# Altium footprint library 二极管.PcbLib: 7 footprints
Each footprint in its own frame and in the unit in brackets; x right, y up, seen from the top. Pads: shape width x height; smd on the part's side, far side on the other; paste and mask are expansions set on the pad; w line width, h text height; cw(c..) or ccw(c..) is an arc to the next point about the centre after c.
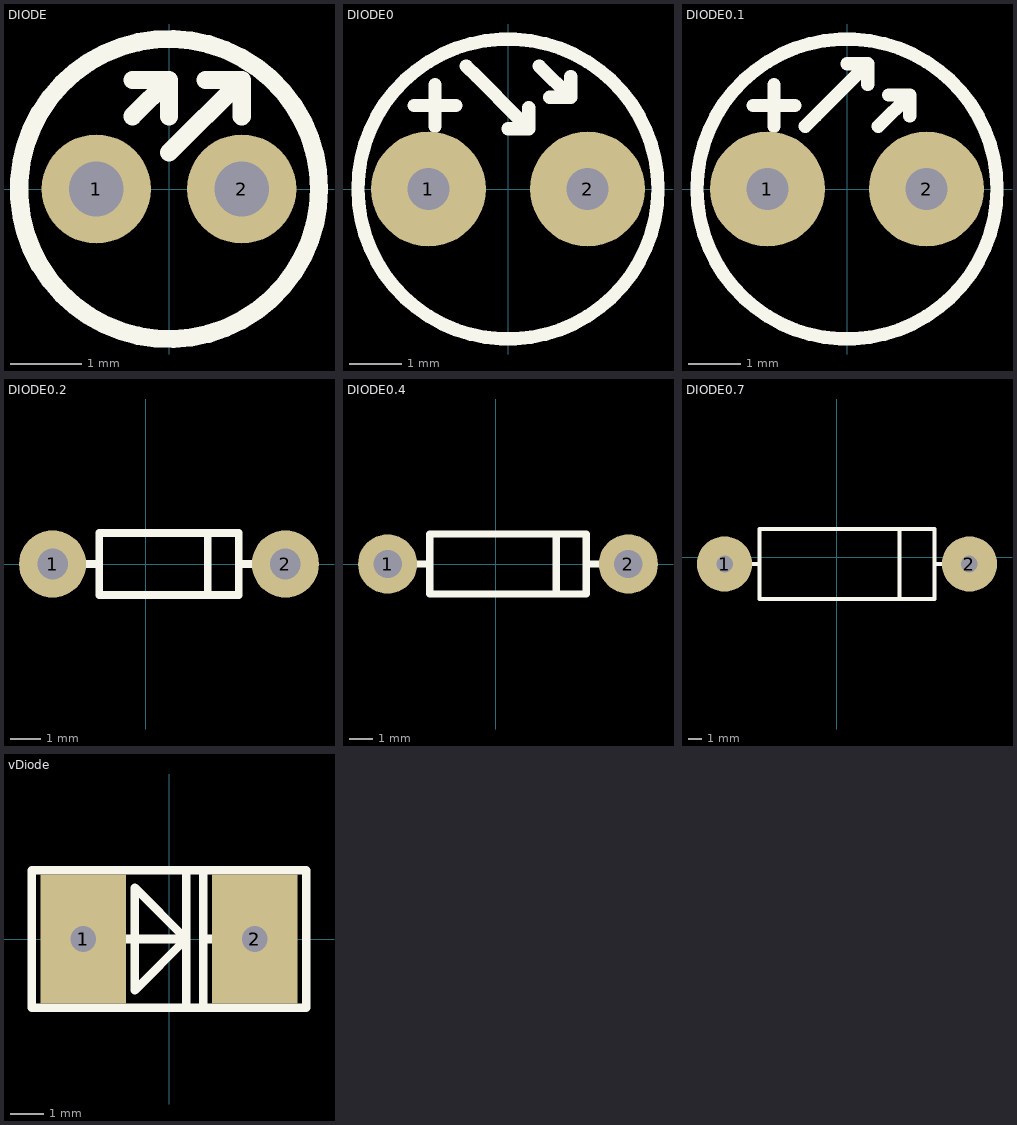
[diagram p0: the footprints below, top view; thin cyan lines are the x and y axes]

## DIODE [mil]
pads (2):
  round 60 hole 30: 1(-40,0) 2(40,0)
TopOverlay:
  circle w10: c0,0 r82.46
  lines w10: -20,40 0,60 ; -20,60 0,60 ; 0,20 40,60 ; 0,40 0,60 ; 20,60 40,60 ; 40,40 40,60

## DIODE0 [mm]
pads (2):
  round 2.2 hole 0.8: 1(-1.524,0) 2(1.524,0)
TopOverlay:
  circle w0.254: c0,0 r2.874
  lines w0.254: -1.8,1.6 -1.2,1.6 -1,1.6 ; -1.4,1.2 -1.4,2 ; -0.8,2.356 -0.6,2.156 0.2,1.356 ; 0,1.156 0.4,1.156 0.4,1.556 ; 0.6,2.356 1.2,1.756 ; 0.8,1.756 1.2,1.756 ; 1.2,2.156 1.2,1.756

## DIODE0.1 [mm]
pads (2):
  round 2.2 hole 0.8: 1(-1.524,0) 2(1.524,0)
TopOverlay:
  circle w0.254: c0,0 r2.874
  lines w0.254: -1.8,1.6 -1.2,1.6 -1,1.6 ; -1.4,1.2 -1.4,2 ; -0.8,1.2 -0.6,1.4 0.2,2.2 ; 0,2.4 0.4,2.4 0.4,2 ; 0.6,1.2 1.2,1.8 ; 0.8,1.8 1.2,1.8 ; 1.2,1.4 1.2,1.8

## DIODE0.2 [mm]
pads (2):
  round 2.2 hole 1: 1(-3.048,0) 2(4.572,0)
TopOverlay:
  lines w0.254: -2.032,0 -1.524,0 ; 2.032,-1.016 2.032,1.016 ; 3.048,0 3.556,0 ; -1.524,-1.016 3.048,-1.016 3.048,1.016 -1.524,1.016 -1.524,-1.016

## DIODE0.4 [mm]
pads (2):
  round 2.5 hole 1.2: 1(-4.572,0) 2(5.588,0)
TopOverlay:
  lines w0.305: -3.556,0 -2.794,0 ; 2.54,-1.27 2.54,1.27 ; 3.81,0 4.572,0 ; -2.794,-1.27 3.81,-1.27 3.81,1.27 -2.794,1.27 -2.794,-1.27

## DIODE0.7 [mm]
pads (2):
  round 4 hole 1.2: 1(-8.128,-0.508) 2(9.652,-0.508)
TopOverlay:
  lines w0.305: -6.604,-0.508 -5.588,-0.508 ; 4.572,-3.048 4.572,2.032 ; 7.112,-0.508 8.128,-0.508 ; -5.588,-3.048 7.112,-3.048 7.112,2.032 -5.588,2.032 -5.588,-3.048

## vDiode [mil]
pads (4):
  rect 100x150 smd: 1(-100,0) 2(100,0)
  round 60 hole 30: 1(-100,0) 2(100,0)
TopOverlay:
  lines w10: -60,0 -40,0 20,0 ; 20,-80 20,80 ; 40,-80 40,80 ; 40,0 60,0 ; 20,0 -40,-60 -40,60 20,0 ; -160,-80 160,-80 160,60 160,80 -160,80 -160,-80